# Altium integrated library Wurth_Elektronik_Passive_rev16a.IntLib: 1143 symbols (part 3 of 28)
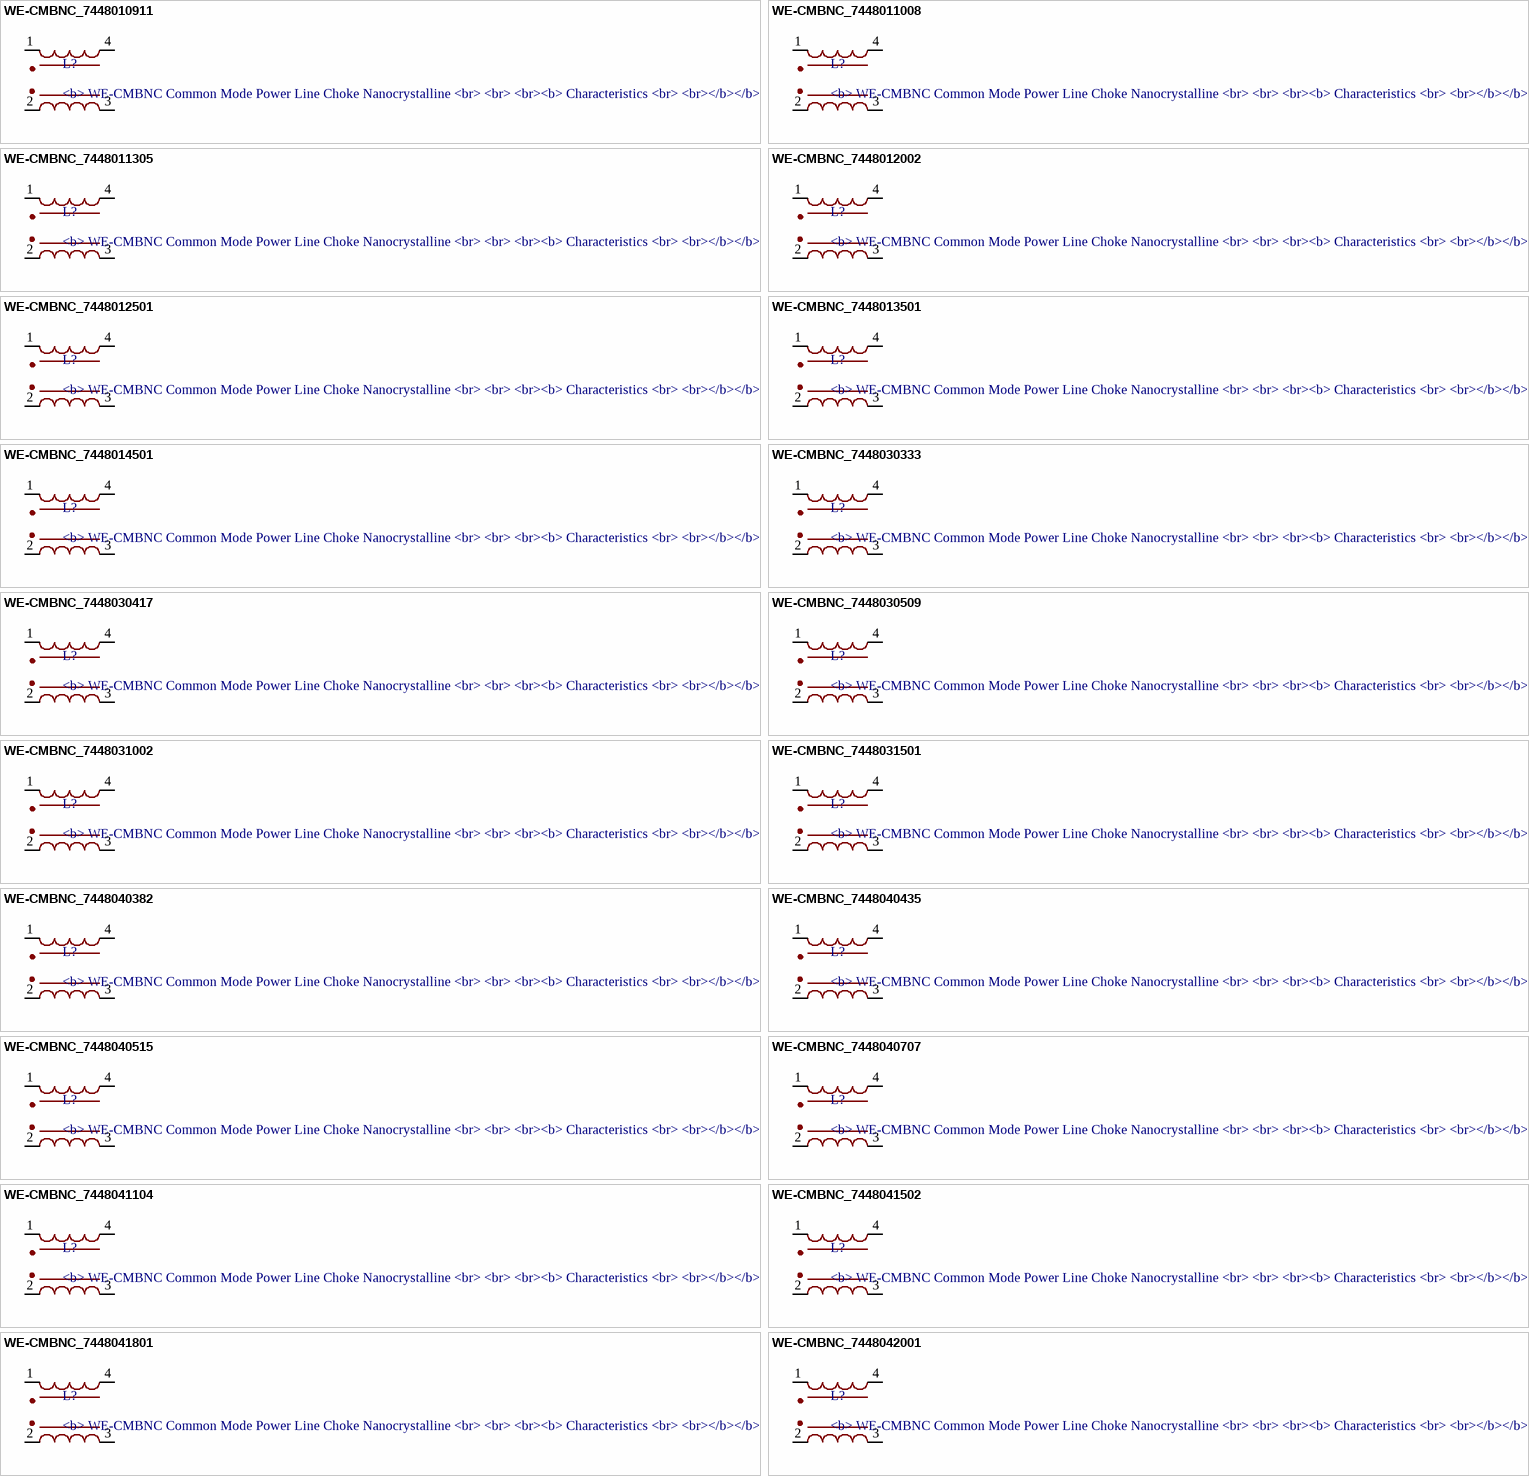
[diagram p60: symbols WE-CMBNC_7448010911 to WE-CMBNC_7448042001]

## WE-CMBNC_7448041104
designator L?, comment <b> WE-CMBNC Common Mode Power Line Choke Nanocrystalline / <br> / <br> / <br><b> Characteristics / <br> / <br></b></b> Very high permeability nanocrystalline core material / <br> / <br> Improved isolation through plastic case and winding spacer / <br> / <br>  High and stable inductance values at high temperatures / <br> / <br> High rated currents / <br> / <br> Broadband suppression / <br> / <br>  Small size / <br> / <br> Frequency range: 1 kHz-300 MHz / <br> / <br> Operating temperature: -40°C to +125°C / <br> / <br> / <br><b> Applications / <br> / <br></b> Power electronics / <br> / <br>  Power line in- and output filter / <br> / <br>  Radio interference suppression in motors / <br> / <br> Suppression for common mode noise / <br> / <br> / <br> / <br><a href="http://katalog.we-online.de/media/images/eisos/IndCMBNC_pf2.jpg" title="Enlarge picture"> / <img src="http://katalog.we-online.de/media/thumbs2/eisos/thb_IndCMBNC_pf2.jpg" width="320"></a><p> / Details see: <a href="http://katalog.we-online.de/en/pbs/WE-CMBNC/">http://katalog.we-online.de/en/pbs/WE-CMBNC/</a><p> / Updated by  Dan Xu 2014-06-23<br> / 2014 (C) Wurth Elektronik
footprint WE-CMBNC_L(WITHOUT-PINS)_7448041104
pins: 1, 2 4, 3, 4 2

## WE-CMBNC_7448041502
designator L?, comment <b> WE-CMBNC Common Mode Power Line Choke Nanocrystalline / <br> / <br> / <br><b> Characteristics / <br> / <br></b></b> Very high permeability nanocrystalline core material / <br> / <br> Improved isolation through plastic case and winding spacer / <br> / <br>  High and stable inductance values at high temperatures / <br> / <br> High rated currents / <br> / <br> Broadband suppression / <br> / <br>  Small size / <br> / <br> Frequency range: 1 kHz-300 MHz / <br> / <br> Operating temperature: -40°C to +125°C / <br> / <br> / <br><b> Applications / <br> / <br></b> Power electronics / <br> / <br>  Power line in- and output filter / <br> / <br>  Radio interference suppression in motors / <br> / <br> Suppression for common mode noise / <br> / <br> / <br> / <br><a href="http://katalog.we-online.de/media/images/eisos/IndCMBNC_pf2.jpg" title="Enlarge picture"> / <img src="http://katalog.we-online.de/media/thumbs2/eisos/thb_IndCMBNC_pf2.jpg" width="320"></a><p> / Details see: <a href="http://katalog.we-online.de/en/pbs/WE-CMBNC/">http://katalog.we-online.de/en/pbs/WE-CMBNC/</a><p> / Updated by  Dan Xu 2014-06-23<br> / 2014 (C) Wurth Elektronik
footprint WE-CMBNC_L(WITHOUT-PINS)_7448041502
pins: 1, 2 4, 3, 4 2

## WE-CMBNC_7448041801
designator L?, comment <b> WE-CMBNC Common Mode Power Line Choke Nanocrystalline / <br> / <br> / <br><b> Characteristics / <br> / <br></b></b> Very high permeability nanocrystalline core material / <br> / <br> Improved isolation through plastic case and winding spacer / <br> / <br>  High and stable inductance values at high temperatures / <br> / <br> High rated currents / <br> / <br> Broadband suppression / <br> / <br>  Small size / <br> / <br> Frequency range: 1 kHz-300 MHz / <br> / <br> Operating temperature: -40°C to +125°C / <br> / <br> / <br><b> Applications / <br> / <br></b> Power electronics / <br> / <br>  Power line in- and output filter / <br> / <br>  Radio interference suppression in motors / <br> / <br> Suppression for common mode noise / <br> / <br> / <br> / <br><a href="http://katalog.we-online.de/media/images/eisos/IndCMBNC_pf2.jpg" title="Enlarge picture"> / <img src="http://katalog.we-online.de/media/thumbs2/eisos/thb_IndCMBNC_pf2.jpg" width="320"></a><p> / Details see: <a href="http://katalog.we-online.de/en/pbs/WE-CMBNC/">http://katalog.we-online.de/en/pbs/WE-CMBNC/</a><p> / Updated by  Dan Xu 2014-06-23<br> / 2014 (C) Wurth Elektronik
footprint WE-CMBNC_L(WITHOUT-PINS)_7448041801
pins: 1, 2 4, 3, 4 2

## WE-CMBNC_7448042001
designator L?, comment <b> WE-CMBNC Common Mode Power Line Choke Nanocrystalline / <br> / <br> / <br><b> Characteristics / <br> / <br></b></b> Very high permeability nanocrystalline core material / <br> / <br> Improved isolation through plastic case and winding spacer / <br> / <br>  High and stable inductance values at high temperatures / <br> / <br> High rated currents / <br> / <br> Broadband suppression / <br> / <br>  Small size / <br> / <br> Frequency range: 1 kHz-300 MHz / <br> / <br> Operating temperature: -40°C to +125°C / <br> / <br> / <br><b> Applications / <br> / <br></b> Power electronics / <br> / <br>  Power line in- and output filter / <br> / <br>  Radio interference suppression in motors / <br> / <br> Suppression for common mode noise / <br> / <br> / <br> / <br><a href="http://katalog.we-online.de/media/images/eisos/IndCMBNC_pf2.jpg" title="Enlarge picture"> / <img src="http://katalog.we-online.de/media/thumbs2/eisos/thb_IndCMBNC_pf2.jpg" width="320"></a><p> / Details see: <a href="http://katalog.we-online.de/en/pbs/WE-CMBNC/">http://katalog.we-online.de/en/pbs/WE-CMBNC/</a><p> / Updated by  Dan Xu 2014-06-23<br> / 2014 (C) Wurth Elektronik
footprint WE-CMBNC_L(WITHOUT-PINS)_7448042001
pins: 1, 2 4, 3, 4 2

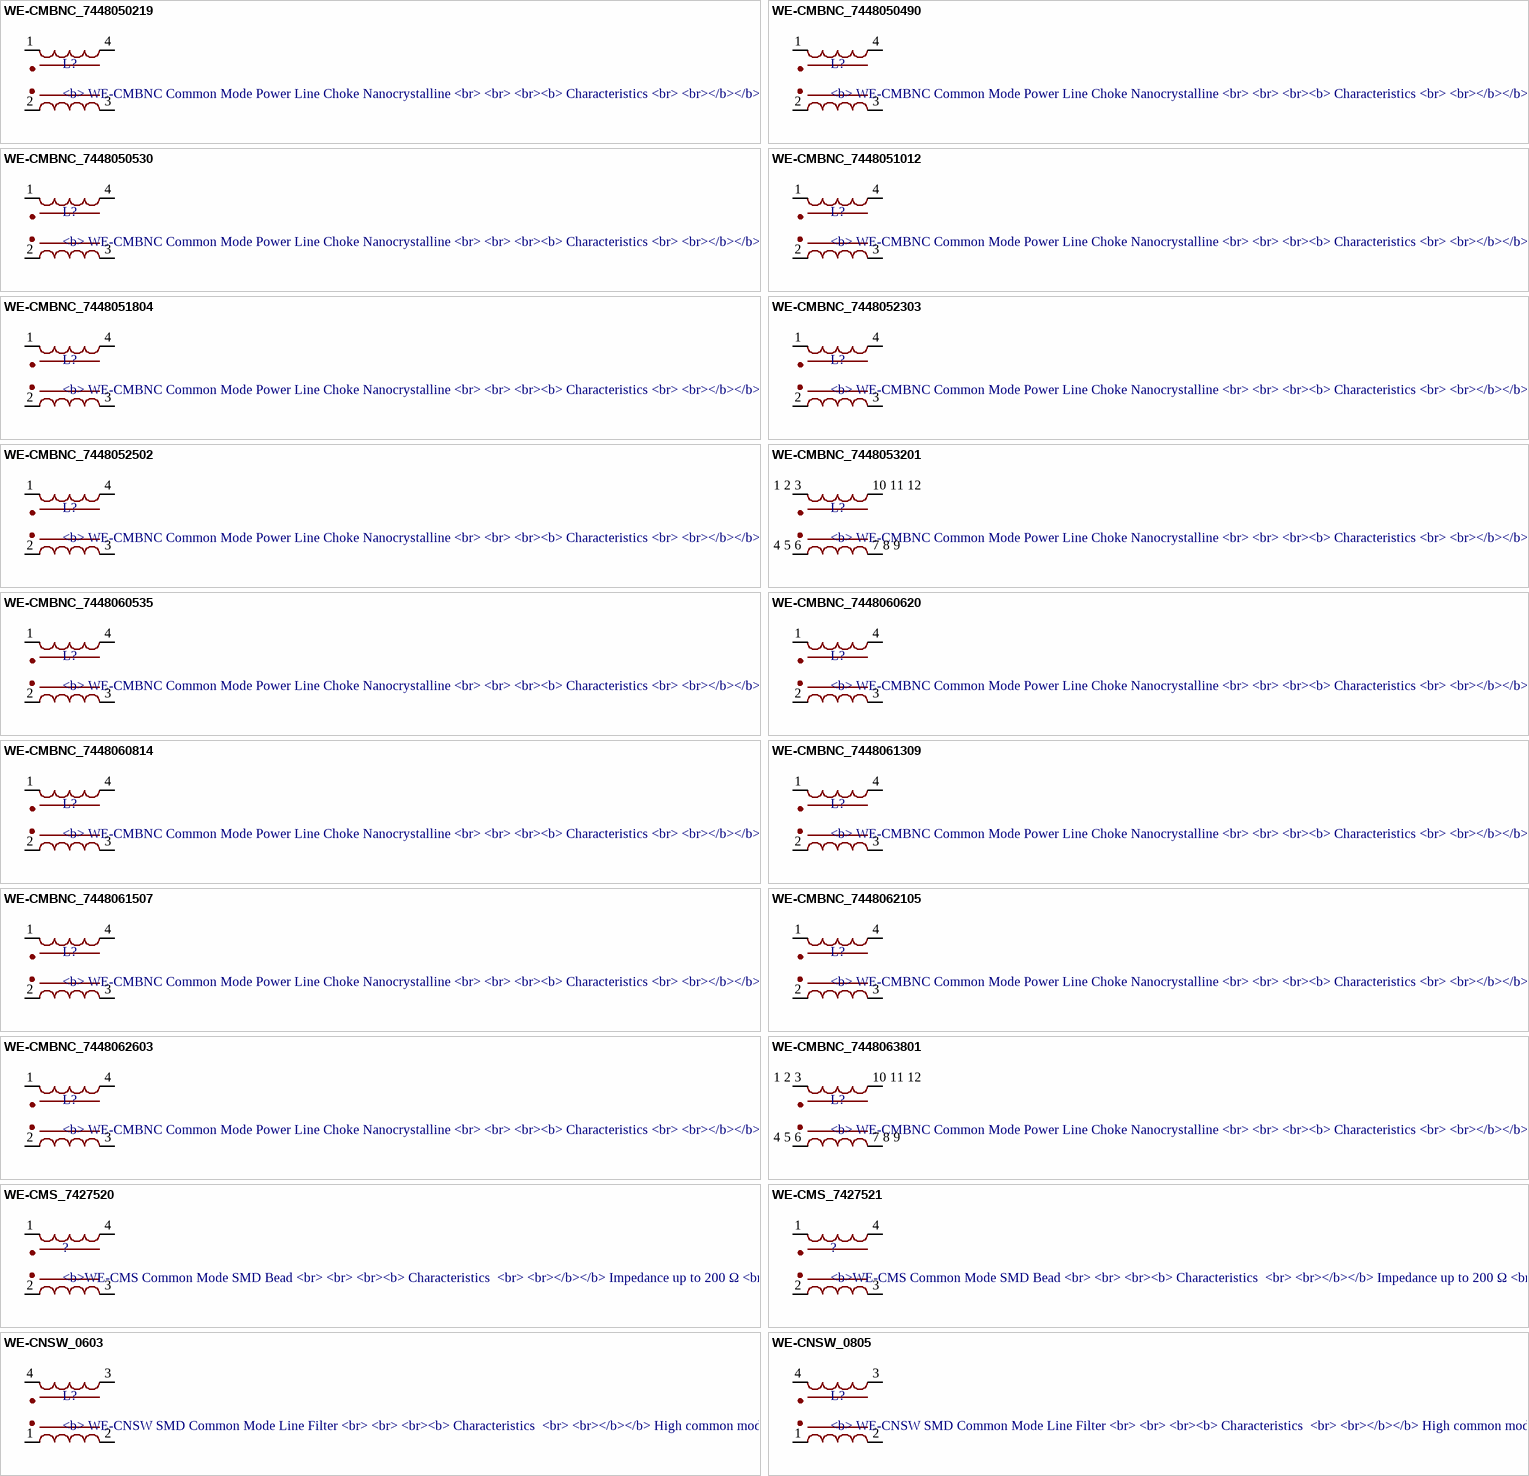
[diagram p3: symbols WE-CMBNC_7448050219 to WE-CNSW_0805]

## WE-CMBNC_7448050219
designator L?, comment <b> WE-CMBNC Common Mode Power Line Choke Nanocrystalline / <br> / <br> / <br><b> Characteristics / <br> / <br></b></b> Very high permeability nanocrystalline core material / <br> / <br> Improved isolation through plastic case and winding spacer / <br> / <br>  High and stable inductance values at high temperatures / <br> / <br> High rated currents / <br> / <br> Broadband suppression / <br> / <br>  Small size / <br> / <br> Frequency range: 1 kHz-300 MHz / <br> / <br> Operating temperature: -40°C to +125°C / <br> / <br> / <br><b> Applications / <br> / <br></b> Power electronics / <br> / <br>  Power line in- and output filter / <br> / <br>  Radio interference suppression in motors / <br> / <br> Suppression for common mode noise / <br> / <br> / <br> / <br><a href="http://katalog.we-online.de/media/images/eisos/IndCMBNC_pf2.jpg" title="Enlarge picture"> / <img src="http://katalog.we-online.de/media/thumbs2/eisos/thb_IndCMBNC_pf2.jpg" width="320"></a><p> / Details see: <a href="http://katalog.we-online.de/en/pbs/WE-CMBNC/">http://katalog.we-online.de/en/pbs/WE-CMBNC/</a><p> / Updated by  Dan Xu 2014-06-23<br> / 2014 (C) Wurth Elektronik
footprint WE-CMBNC_XL_7448050219
pins: 1, 2 4, 3, 4 2

## WE-CMBNC_7448050490
designator L?, comment <b> WE-CMBNC Common Mode Power Line Choke Nanocrystalline / <br> / <br> / <br><b> Characteristics / <br> / <br></b></b> Very high permeability nanocrystalline core material / <br> / <br> Improved isolation through plastic case and winding spacer / <br> / <br>  High and stable inductance values at high temperatures / <br> / <br> High rated currents / <br> / <br> Broadband suppression / <br> / <br>  Small size / <br> / <br> Frequency range: 1 kHz-300 MHz / <br> / <br> Operating temperature: -40°C to +125°C / <br> / <br> / <br><b> Applications / <br> / <br></b> Power electronics / <br> / <br>  Power line in- and output filter / <br> / <br>  Radio interference suppression in motors / <br> / <br> Suppression for common mode noise / <br> / <br> / <br> / <br><a href="http://katalog.we-online.de/media/images/eisos/IndCMBNC_pf2.jpg" title="Enlarge picture"> / <img src="http://katalog.we-online.de/media/thumbs2/eisos/thb_IndCMBNC_pf2.jpg" width="320"></a><p> / Details see: <a href="http://katalog.we-online.de/en/pbs/WE-CMBNC/">http://katalog.we-online.de/en/pbs/WE-CMBNC/</a><p> / Updated by  Dan Xu 2014-06-23<br> / 2014 (C) Wurth Elektronik
footprint WE-CMBNC_XL_7448050490
pins: 1, 2 4, 3, 4 2

## WE-CMBNC_7448050530
designator L?, comment <b> WE-CMBNC Common Mode Power Line Choke Nanocrystalline / <br> / <br> / <br><b> Characteristics / <br> / <br></b></b> Very high permeability nanocrystalline core material / <br> / <br> Improved isolation through plastic case and winding spacer / <br> / <br>  High and stable inductance values at high temperatures / <br> / <br> High rated currents / <br> / <br> Broadband suppression / <br> / <br>  Small size / <br> / <br> Frequency range: 1 kHz-300 MHz / <br> / <br> Operating temperature: -40°C to +125°C / <br> / <br> / <br><b> Applications / <br> / <br></b> Power electronics / <br> / <br>  Power line in- and output filter / <br> / <br>  Radio interference suppression in motors / <br> / <br> Suppression for common mode noise / <br> / <br> / <br> / <br><a href="http://katalog.we-online.de/media/images/eisos/IndCMBNC_pf2.jpg" title="Enlarge picture"> / <img src="http://katalog.we-online.de/media/thumbs2/eisos/thb_IndCMBNC_pf2.jpg" width="320"></a><p> / Details see: <a href="http://katalog.we-online.de/en/pbs/WE-CMBNC/">http://katalog.we-online.de/en/pbs/WE-CMBNC/</a><p> / Updated by  Dan Xu 2014-06-23<br> / 2014 (C) Wurth Elektronik
footprint WE-CMBNC_XL(WITHOUT-PINS)_7448050530
pins: 1, 2 4, 3, 4 2

## WE-CMBNC_7448051012
designator L?, comment <b> WE-CMBNC Common Mode Power Line Choke Nanocrystalline / <br> / <br> / <br><b> Characteristics / <br> / <br></b></b> Very high permeability nanocrystalline core material / <br> / <br> Improved isolation through plastic case and winding spacer / <br> / <br>  High and stable inductance values at high temperatures / <br> / <br> High rated currents / <br> / <br> Broadband suppression / <br> / <br>  Small size / <br> / <br> Frequency range: 1 kHz-300 MHz / <br> / <br> Operating temperature: -40°C to +125°C / <br> / <br> / <br><b> Applications / <br> / <br></b> Power electronics / <br> / <br>  Power line in- and output filter / <br> / <br>  Radio interference suppression in motors / <br> / <br> Suppression for common mode noise / <br> / <br> / <br> / <br><a href="http://katalog.we-online.de/media/images/eisos/IndCMBNC_pf2.jpg" title="Enlarge picture"> / <img src="http://katalog.we-online.de/media/thumbs2/eisos/thb_IndCMBNC_pf2.jpg" width="320"></a><p> / Details see: <a href="http://katalog.we-online.de/en/pbs/WE-CMBNC/">http://katalog.we-online.de/en/pbs/WE-CMBNC/</a><p> / Updated by  Dan Xu 2014-06-23<br> / 2014 (C) Wurth Elektronik
footprint WE-CMBNC_XL(WITHOUT-PINS)_7448051012
pins: 1, 2 4, 3, 4 2

## WE-CMBNC_7448051804
designator L?, comment <b> WE-CMBNC Common Mode Power Line Choke Nanocrystalline / <br> / <br> / <br><b> Characteristics / <br> / <br></b></b> Very high permeability nanocrystalline core material / <br> / <br> Improved isolation through plastic case and winding spacer / <br> / <br>  High and stable inductance values at high temperatures / <br> / <br> High rated currents / <br> / <br> Broadband suppression / <br> / <br>  Small size / <br> / <br> Frequency range: 1 kHz-300 MHz / <br> / <br> Operating temperature: -40°C to +125°C / <br> / <br> / <br><b> Applications / <br> / <br></b> Power electronics / <br> / <br>  Power line in- and output filter / <br> / <br>  Radio interference suppression in motors / <br> / <br> Suppression for common mode noise / <br> / <br> / <br> / <br><a href="http://katalog.we-online.de/media/images/eisos/IndCMBNC_pf2.jpg" title="Enlarge picture"> / <img src="http://katalog.we-online.de/media/thumbs2/eisos/thb_IndCMBNC_pf2.jpg" width="320"></a><p> / Details see: <a href="http://katalog.we-online.de/en/pbs/WE-CMBNC/">http://katalog.we-online.de/en/pbs/WE-CMBNC/</a><p> / Updated by  Dan Xu 2014-06-23<br> / 2014 (C) Wurth Elektronik
footprint WE-CMBNC_XL(WITHOUT-PINS)_7448051804
pins: 1, 2 4, 3, 4 2

## WE-CMBNC_7448052303
designator L?, comment <b> WE-CMBNC Common Mode Power Line Choke Nanocrystalline / <br> / <br> / <br><b> Characteristics / <br> / <br></b></b> Very high permeability nanocrystalline core material / <br> / <br> Improved isolation through plastic case and winding spacer / <br> / <br>  High and stable inductance values at high temperatures / <br> / <br> High rated currents / <br> / <br> Broadband suppression / <br> / <br>  Small size / <br> / <br> Frequency range: 1 kHz-300 MHz / <br> / <br> Operating temperature: -40°C to +125°C / <br> / <br> / <br><b> Applications / <br> / <br></b> Power electronics / <br> / <br>  Power line in- and output filter / <br> / <br>  Radio interference suppression in motors / <br> / <br> Suppression for common mode noise / <br> / <br> / <br> / <br><a href="http://katalog.we-online.de/media/images/eisos/IndCMBNC_pf2.jpg" title="Enlarge picture"> / <img src="http://katalog.we-online.de/media/thumbs2/eisos/thb_IndCMBNC_pf2.jpg" width="320"></a><p> / Details see: <a href="http://katalog.we-online.de/en/pbs/WE-CMBNC/">http://katalog.we-online.de/en/pbs/WE-CMBNC/</a><p> / Updated by  Dan Xu 2014-06-23<br> / 2014 (C) Wurth Elektronik
footprint WE-CMBNC_XL(WITHOUT-PINS)_7448052303
pins: 1, 2 4, 3, 4 2

## WE-CMBNC_7448052502
designator L?, comment <b> WE-CMBNC Common Mode Power Line Choke Nanocrystalline / <br> / <br> / <br><b> Characteristics / <br> / <br></b></b> Very high permeability nanocrystalline core material / <br> / <br> Improved isolation through plastic case and winding spacer / <br> / <br>  High and stable inductance values at high temperatures / <br> / <br> High rated currents / <br> / <br> Broadband suppression / <br> / <br>  Small size / <br> / <br> Frequency range: 1 kHz-300 MHz / <br> / <br> Operating temperature: -40°C to +125°C / <br> / <br> / <br><b> Applications / <br> / <br></b> Power electronics / <br> / <br>  Power line in- and output filter / <br> / <br>  Radio interference suppression in motors / <br> / <br> Suppression for common mode noise / <br> / <br> / <br> / <br><a href="http://katalog.we-online.de/media/images/eisos/IndCMBNC_pf2.jpg" title="Enlarge picture"> / <img src="http://katalog.we-online.de/media/thumbs2/eisos/thb_IndCMBNC_pf2.jpg" width="320"></a><p> / Details see: <a href="http://katalog.we-online.de/en/pbs/WE-CMBNC/">http://katalog.we-online.de/en/pbs/WE-CMBNC/</a><p> / Updated by  Dan Xu 2014-06-23<br> / 2014 (C) Wurth Elektronik
footprint WE-CMBNC_XL(WITHOUT-PINS)_7448052502
pins: 1, 2 4, 3, 4 2

## WE-CMBNC_7448053201
designator L?, comment <b> WE-CMBNC Common Mode Power Line Choke Nanocrystalline / <br> / <br> / <br><b> Characteristics / <br> / <br></b></b> Very high permeability nanocrystalline core material / <br> / <br> Improved isolation through plastic case and winding spacer / <br> / <br>  High and stable inductance values at high temperatures / <br> / <br> High rated currents / <br> / <br> Broadband suppression / <br> / <br>  Small size / <br> / <br> Frequency range: 1 kHz-300 MHz / <br> / <br> Operating temperature: -40°C to +125°C / <br> / <br> / <br><b> Applications / <br> / <br></b> Power electronics / <br> / <br>  Power line in- and output filter / <br> / <br>  Radio interference suppression in motors / <br> / <br> Suppression for common mode noise / <br> / <br> / <br> / <br><a href="http://katalog.we-online.de/media/images/eisos/IndCMBNC_pf2.jpg" title="Enlarge picture"> / <img src="http://katalog.we-online.de/media/thumbs2/eisos/thb_IndCMBNC_pf2.jpg" width="320"></a><p> / Details see: <a href="http://katalog.we-online.de/en/pbs/WE-CMBNC/">http://katalog.we-online.de/en/pbs/WE-CMBNC/</a><p> / Updated by  Dan Xu 2014-06-23<br> / 2014 (C) Wurth Elektronik
footprint WE-CMBNC_XL(WITHOUT-PINS)_7448053201
pins: 1 2 3 1, 4 5 6 4, 7 8 9 3, 10 11 12 2

## WE-CMBNC_7448060535
designator L?, comment <b> WE-CMBNC Common Mode Power Line Choke Nanocrystalline / <br> / <br> / <br><b> Characteristics / <br> / <br></b></b> Very high permeability nanocrystalline core material / <br> / <br> Improved isolation through plastic case and winding spacer / <br> / <br>  High and stable inductance values at high temperatures / <br> / <br> High rated currents / <br> / <br> Broadband suppression / <br> / <br>  Small size / <br> / <br> Frequency range: 1 kHz-300 MHz / <br> / <br> Operating temperature: -40°C to +125°C / <br> / <br> / <br><b> Applications / <br> / <br></b> Power electronics / <br> / <br>  Power line in- and output filter / <br> / <br>  Radio interference suppression in motors / <br> / <br> Suppression for common mode noise / <br> / <br> / <br> / <br><a href="http://katalog.we-online.de/media/images/eisos/IndCMBNC_pf2.jpg" title="Enlarge picture"> / <img src="http://katalog.we-online.de/media/thumbs2/eisos/thb_IndCMBNC_pf2.jpg" width="320"></a><p> / Details see: <a href="http://katalog.we-online.de/en/pbs/WE-CMBNC/">http://katalog.we-online.de/en/pbs/WE-CMBNC/</a><p> / Updated by  Dan Xu 2014-06-23<br> / 2014 (C) Wurth Elektronik
footprint WE-CMBNC_XXL_7448060535
pins: 1, 2 4, 3, 4 2

## WE-CMBNC_7448060620
designator L?, comment <b> WE-CMBNC Common Mode Power Line Choke Nanocrystalline / <br> / <br> / <br><b> Characteristics / <br> / <br></b></b> Very high permeability nanocrystalline core material / <br> / <br> Improved isolation through plastic case and winding spacer / <br> / <br>  High and stable inductance values at high temperatures / <br> / <br> High rated currents / <br> / <br> Broadband suppression / <br> / <br>  Small size / <br> / <br> Frequency range: 1 kHz-300 MHz / <br> / <br> Operating temperature: -40°C to +125°C / <br> / <br> / <br><b> Applications / <br> / <br></b> Power electronics / <br> / <br>  Power line in- and output filter / <br> / <br>  Radio interference suppression in motors / <br> / <br> Suppression for common mode noise / <br> / <br> / <br> / <br><a href="http://katalog.we-online.de/media/images/eisos/IndCMBNC_pf2.jpg" title="Enlarge picture"> / <img src="http://katalog.we-online.de/media/thumbs2/eisos/thb_IndCMBNC_pf2.jpg" width="320"></a><p> / Details see: <a href="http://katalog.we-online.de/en/pbs/WE-CMBNC/">http://katalog.we-online.de/en/pbs/WE-CMBNC/</a><p> / Updated by  Dan Xu 2014-06-23<br> / 2014 (C) Wurth Elektronik
footprint WE-CMBNC_XXL_7448060620
pins: 1, 2 4, 3, 4 2

## WE-CMBNC_7448060814
designator L?, comment <b> WE-CMBNC Common Mode Power Line Choke Nanocrystalline / <br> / <br> / <br><b> Characteristics / <br> / <br></b></b> Very high permeability nanocrystalline core material / <br> / <br> Improved isolation through plastic case and winding spacer / <br> / <br>  High and stable inductance values at high temperatures / <br> / <br> High rated currents / <br> / <br> Broadband suppression / <br> / <br>  Small size / <br> / <br> Frequency range: 1 kHz-300 MHz / <br> / <br> Operating temperature: -40°C to +125°C / <br> / <br> / <br><b> Applications / <br> / <br></b> Power electronics / <br> / <br>  Power line in- and output filter / <br> / <br>  Radio interference suppression in motors / <br> / <br> Suppression for common mode noise / <br> / <br> / <br> / <br><a href="http://katalog.we-online.de/media/images/eisos/IndCMBNC_pf2.jpg" title="Enlarge picture"> / <img src="http://katalog.we-online.de/media/thumbs2/eisos/thb_IndCMBNC_pf2.jpg" width="320"></a><p> / Details see: <a href="http://katalog.we-online.de/en/pbs/WE-CMBNC/">http://katalog.we-online.de/en/pbs/WE-CMBNC/</a><p> / Updated by  Dan Xu 2014-06-23<br> / 2014 (C) Wurth Elektronik
footprint WE-CMBNC_XXL_7448060814
pins: 1, 2 4, 3, 4 2

## WE-CMBNC_7448061309
designator L?, comment <b> WE-CMBNC Common Mode Power Line Choke Nanocrystalline / <br> / <br> / <br><b> Characteristics / <br> / <br></b></b> Very high permeability nanocrystalline core material / <br> / <br> Improved isolation through plastic case and winding spacer / <br> / <br>  High and stable inductance values at high temperatures / <br> / <br> High rated currents / <br> / <br> Broadband suppression / <br> / <br>  Small size / <br> / <br> Frequency range: 1 kHz-300 MHz / <br> / <br> Operating temperature: -40°C to +125°C / <br> / <br> / <br><b> Applications / <br> / <br></b> Power electronics / <br> / <br>  Power line in- and output filter / <br> / <br>  Radio interference suppression in motors / <br> / <br> Suppression for common mode noise / <br> / <br> / <br> / <br><a href="http://katalog.we-online.de/media/images/eisos/IndCMBNC_pf2.jpg" title="Enlarge picture"> / <img src="http://katalog.we-online.de/media/thumbs2/eisos/thb_IndCMBNC_pf2.jpg" width="320"></a><p> / Details see: <a href="http://katalog.we-online.de/en/pbs/WE-CMBNC/">http://katalog.we-online.de/en/pbs/WE-CMBNC/</a><p> / Updated by  Dan Xu 2014-06-23<br> / 2014 (C) Wurth Elektronik
footprint WE-CMBNC_XXL_7448061309
pins: 1, 2 4, 3, 4 2

## WE-CMBNC_7448061507
designator L?, comment <b> WE-CMBNC Common Mode Power Line Choke Nanocrystalline / <br> / <br> / <br><b> Characteristics / <br> / <br></b></b> Very high permeability nanocrystalline core material / <br> / <br> Improved isolation through plastic case and winding spacer / <br> / <br>  High and stable inductance values at high temperatures / <br> / <br> High rated currents / <br> / <br> Broadband suppression / <br> / <br>  Small size / <br> / <br> Frequency range: 1 kHz-300 MHz / <br> / <br> Operating temperature: -40°C to +125°C / <br> / <br> / <br><b> Applications / <br> / <br></b> Power electronics / <br> / <br>  Power line in- and output filter / <br> / <br>  Radio interference suppression in motors / <br> / <br> Suppression for common mode noise / <br> / <br> / <br> / <br><a href="http://katalog.we-online.de/media/images/eisos/IndCMBNC_pf2.jpg" title="Enlarge picture"> / <img src="http://katalog.we-online.de/media/thumbs2/eisos/thb_IndCMBNC_pf2.jpg" width="320"></a><p> / Details see: <a href="http://katalog.we-online.de/en/pbs/WE-CMBNC/">http://katalog.we-online.de/en/pbs/WE-CMBNC/</a><p> / Updated by  Dan Xu 2014-06-23<br> / 2014 (C) Wurth Elektronik
footprint WE-CMBNC_XXL_7448061507
pins: 1, 2 4, 3, 4 2

## WE-CMBNC_7448062105
designator L?, comment <b> WE-CMBNC Common Mode Power Line Choke Nanocrystalline / <br> / <br> / <br><b> Characteristics / <br> / <br></b></b> Very high permeability nanocrystalline core material / <br> / <br> Improved isolation through plastic case and winding spacer / <br> / <br>  High and stable inductance values at high temperatures / <br> / <br> High rated currents / <br> / <br> Broadband suppression / <br> / <br>  Small size / <br> / <br> Frequency range: 1 kHz-300 MHz / <br> / <br> Operating temperature: -40°C to +125°C / <br> / <br> / <br><b> Applications / <br> / <br></b> Power electronics / <br> / <br>  Power line in- and output filter / <br> / <br>  Radio interference suppression in motors / <br> / <br> Suppression for common mode noise / <br> / <br> / <br> / <br><a href="http://katalog.we-online.de/media/images/eisos/IndCMBNC_pf2.jpg" title="Enlarge picture"> / <img src="http://katalog.we-online.de/media/thumbs2/eisos/thb_IndCMBNC_pf2.jpg" width="320"></a><p> / Details see: <a href="http://katalog.we-online.de/en/pbs/WE-CMBNC/">http://katalog.we-online.de/en/pbs/WE-CMBNC/</a><p> / Updated by  Dan Xu 2014-06-23<br> / 2014 (C) Wurth Elektronik
footprint WE-CMBNC_XXL_7448062105
pins: 1, 2 4, 3, 4 2

## WE-CMBNC_7448062603
designator L?, comment <b> WE-CMBNC Common Mode Power Line Choke Nanocrystalline / <br> / <br> / <br><b> Characteristics / <br> / <br></b></b> Very high permeability nanocrystalline core material / <br> / <br> Improved isolation through plastic case and winding spacer / <br> / <br>  High and stable inductance values at high temperatures / <br> / <br> High rated currents / <br> / <br> Broadband suppression / <br> / <br>  Small size / <br> / <br> Frequency range: 1 kHz-300 MHz / <br> / <br> Operating temperature: -40°C to +125°C / <br> / <br> / <br><b> Applications / <br> / <br></b> Power electronics / <br> / <br>  Power line in- and output filter / <br> / <br>  Radio interference suppression in motors / <br> / <br> Suppression for common mode noise / <br> / <br> / <br> / <br><a href="http://katalog.we-online.de/media/images/eisos/IndCMBNC_pf2.jpg" title="Enlarge picture"> / <img src="http://katalog.we-online.de/media/thumbs2/eisos/thb_IndCMBNC_pf2.jpg" width="320"></a><p> / Details see: <a href="http://katalog.we-online.de/en/pbs/WE-CMBNC/">http://katalog.we-online.de/en/pbs/WE-CMBNC/</a><p> / Updated by  Dan Xu 2014-06-23<br> / 2014 (C) Wurth Elektronik
footprint WE-CMBNC_XXL_7448062603
pins: 1, 2 4, 3, 4 2

## WE-CMBNC_7448063801
designator L?, comment <b> WE-CMBNC Common Mode Power Line Choke Nanocrystalline / <br> / <br> / <br><b> Characteristics / <br> / <br></b></b> Very high permeability nanocrystalline core material / <br> / <br> Improved isolation through plastic case and winding spacer / <br> / <br>  High and stable inductance values at high temperatures / <br> / <br> High rated currents / <br> / <br> Broadband suppression / <br> / <br>  Small size / <br> / <br> Frequency range: 1 kHz-300 MHz / <br> / <br> Operating temperature: -40°C to +125°C / <br> / <br> / <br><b> Applications / <br> / <br></b> Power electronics / <br> / <br>  Power line in- and output filter / <br> / <br>  Radio interference suppression in motors / <br> / <br> Suppression for common mode noise / <br> / <br> / <br> / <br><a href="http://katalog.we-online.de/media/images/eisos/IndCMBNC_pf2.jpg" title="Enlarge picture"> / <img src="http://katalog.we-online.de/media/thumbs2/eisos/thb_IndCMBNC_pf2.jpg" width="320"></a><p> / Details see: <a href="http://katalog.we-online.de/en/pbs/WE-CMBNC/">http://katalog.we-online.de/en/pbs/WE-CMBNC/</a><p> / Updated by  Dan Xu 2014-06-23<br> / 2014 (C) Wurth Elektronik
footprint WE-CMBNC_XXL_7448063801
pins: 1 2 3 1, 4 5 6 4, 7 8 9 3, 10 11 12 2

## WE-CMS_7427520
designator ?, comment <b>WE-CMS Common Mode SMD Bead / <br> / <br> / <br><b> Characteristics / <br> / <br></b></b> Impedance up to 200 Ω / <br> / <br> Operating temperature: –40 ºC to +85 ºC / <br> / <br> / <br><b> Applications / <br> / <br></b> Power supply systems / <br> / <br> Symmetric data lines / <br> / <br> Common mode interference / <br> / <br> Power electronics / <br> / <br> / <br><a href="http://katalog.we-online.de/media/images/eisos/FeCMS_pf2.jpg"> / <img src="http://katalog.we-online.de/media/images/eisos/FeCMS_pf2.jpg" width="320"></a><p> / Details see: <a href="http://katalog.we-online.de/en/pbs/WE-CMS/?">http://katalog.we-online.de/en/pbs/WE-CMS/?</a><p> / Updated by  Dan Xu 2014-06-30<br> / 2014 (C) Wurth Elektronik
footprint WE-CMS_7427520
pins: 1, 2 4, 3, 4 2

## WE-CMS_7427521
designator ?, comment <b>WE-CMS Common Mode SMD Bead / <br> / <br> / <br><b> Characteristics / <br> / <br></b></b> Impedance up to 200 Ω / <br> / <br> Operating temperature: –40 ºC to +85 ºC / <br> / <br> / <br><b> Applications / <br> / <br></b> Power supply systems / <br> / <br> Symmetric data lines / <br> / <br> Common mode interference / <br> / <br> Power electronics / <br> / <br> / <br><a href="http://katalog.we-online.de/media/images/eisos/FeCMS_pf2.jpg"> / <img src="http://katalog.we-online.de/media/images/eisos/FeCMS_pf2.jpg" width="320"></a><p> / Details see: <a href="http://katalog.we-online.de/en/pbs/WE-CMS/?">http://katalog.we-online.de/en/pbs/WE-CMS/?</a><p> / Updated by  Dan Xu 2014-06-30<br> / 2014 (C) Wurth Elektronik
footprint WE-CMS_7427521
pins: 1, 2 4, 3, 4 2

## WE-CNSW_0603
designator L?, comment <b> WE-CNSW SMD Common Mode Line Filter / <br> / <br> / <br><b> Characteristics / <br> / <br></b></b> High common mode noise suppression at high frequencies / <br> / <br> Small influence on high speed signals through winding symmetry / <br> / <br> Operating temperature: –40 ºC to +125 ºC (Size 0805/1206/1812); –40 ºC to +105 ºC (Size 0603) / <br> / <br> / <br><b> Applications / <br> / <br></b> USB 2.0 / <br> / <br> IEEE 1394 (Firewire) / <br> / <br> LVDS / <br> / <br> High Speed Data Lines / <br> / <br>LAN / <br> / <br> / <br> / <br><a href="http://katalog.we-online.de/media/images/eisos/IndCNSW_pf2.jpg"> / <img src="http://katalog.we-online.de/media/images/eisos/IndCNSW_pf2.jpg" width="320"></a><p> / Details see: <a href="http://katalog.we-online.de/en/pbs/WE-CNSW">http://katalog.we-online.de/en/pbs/WE-CNSW</a><p> / Updated by  Dan Xu 2014-06-30<br> / 2014 (C) Wurth Elektronik
footprint WE-CNSW_0603
pins: 1 4, 2 3, 3 2, 4 1

## WE-CNSW_0805
designator L?, comment <b> WE-CNSW SMD Common Mode Line Filter / <br> / <br> / <br><b> Characteristics / <br> / <br></b></b> High common mode noise suppression at high frequencies / <br> / <br> Small influence on high speed signals through winding symmetry / <br> / <br> Operating temperature: –40 ºC to +125 ºC (Size 0805/1206/1812); –40 ºC to +105 ºC (Size 0603) / <br> / <br> / <br><b> Applications / <br> / <br></b> USB 2.0 / <br> / <br> IEEE 1394 (Firewire) / <br> / <br> LVDS / <br> / <br> High Speed Data Lines / <br> / <br>LAN / <br> / <br> / <br> / <br><a href="http://katalog.we-online.de/media/images/eisos/IndCNSW_pf2.jpg"> / <img src="http://katalog.we-online.de/media/images/eisos/IndCNSW_pf2.jpg" width="320"></a><p> / Details see: <a href="http://katalog.we-online.de/en/pbs/WE-CNSW">http://katalog.we-online.de/en/pbs/WE-CNSW</a><p> / Updated by  Dan Xu 2014-06-30<br> / 2014 (C) Wurth Elektronik
footprint WE-CNSW_0805
pins: 1 4, 2 3, 3 2, 4 1

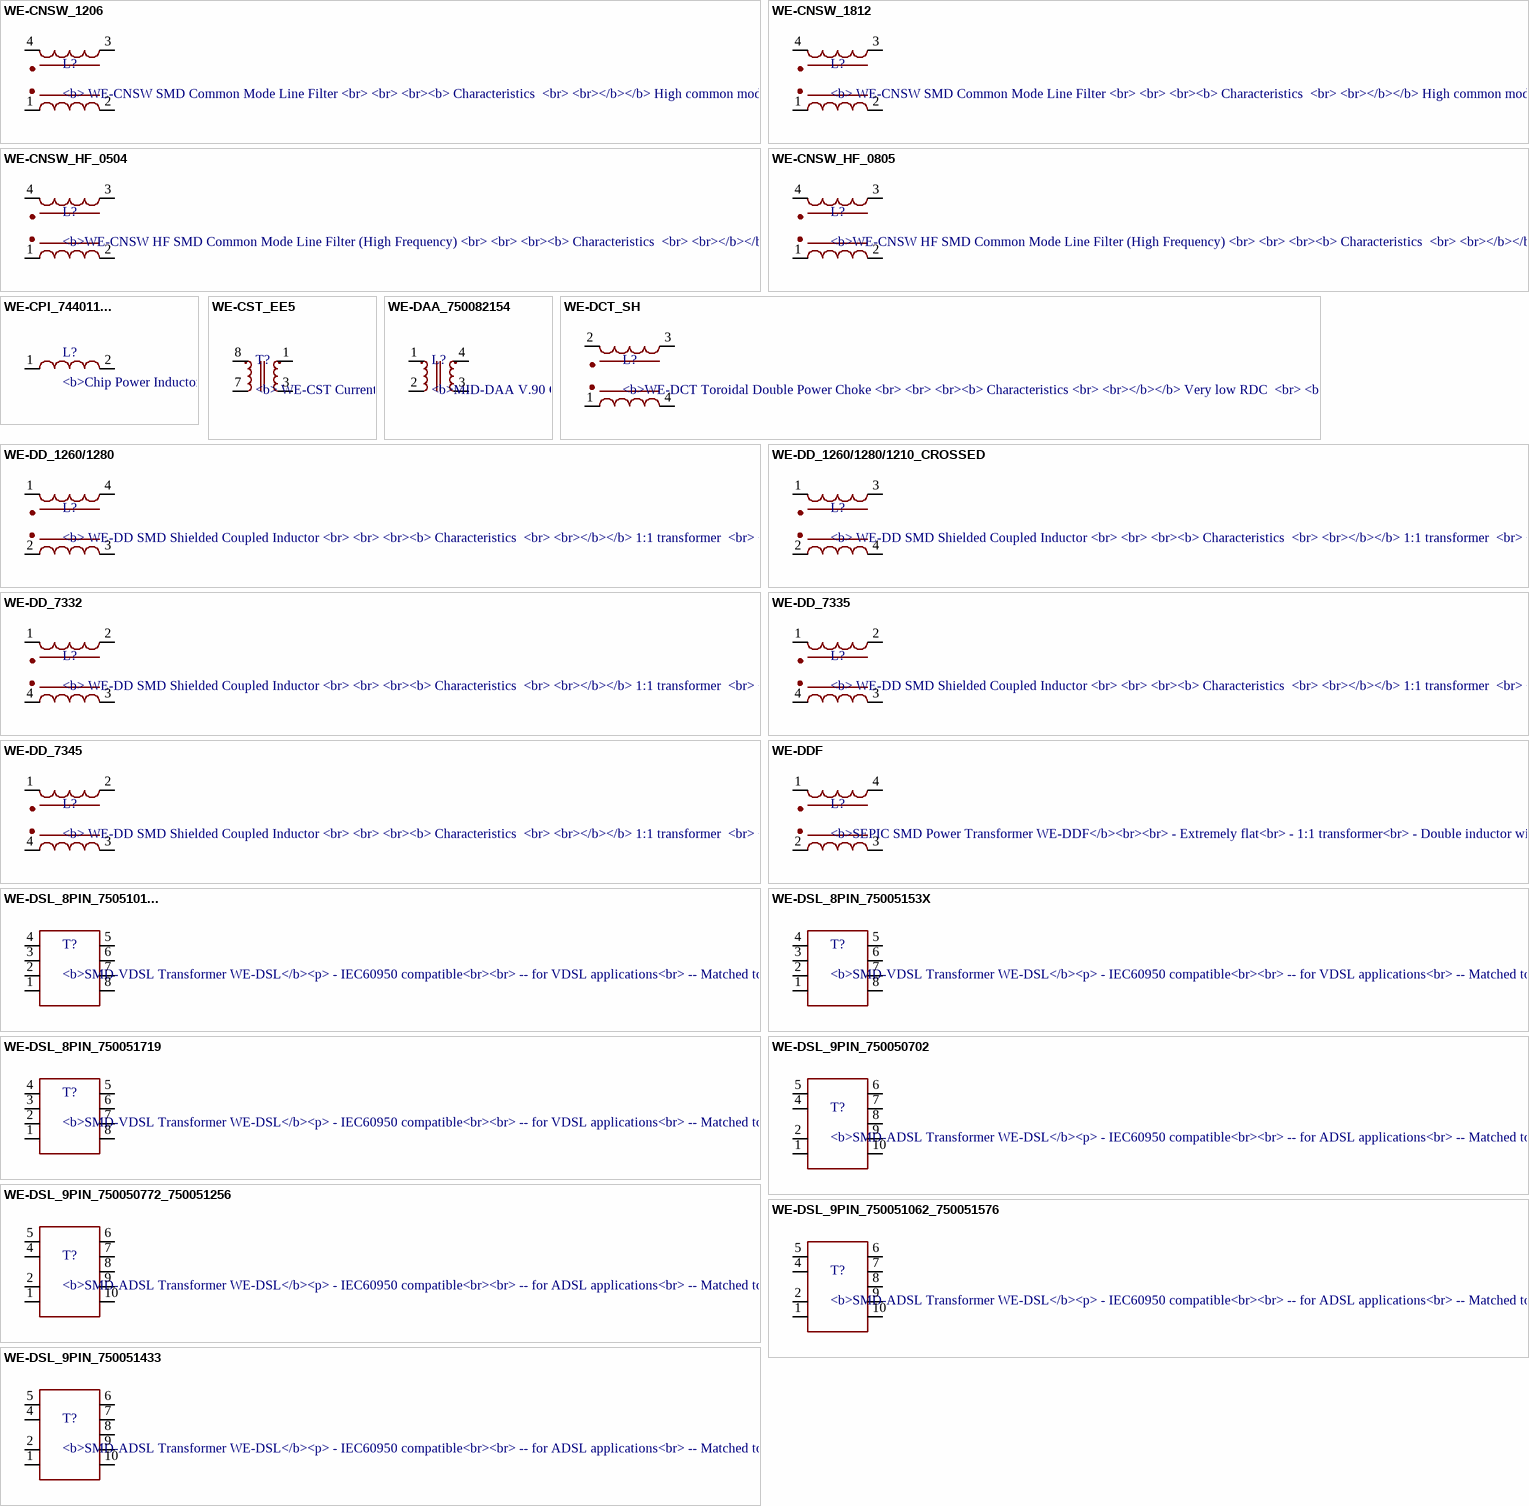
[diagram p4: symbols WE-CNSW_1206 to WE-DSL_9PIN_750051433]

## WE-CNSW_1206
designator L?, comment <b> WE-CNSW SMD Common Mode Line Filter / <br> / <br> / <br><b> Characteristics / <br> / <br></b></b> High common mode noise suppression at high frequencies / <br> / <br> Small influence on high speed signals through winding symmetry / <br> / <br> Operating temperature: –40 ºC to +125 ºC (Size 0805/1206/1812); –40 ºC to +105 ºC (Size 0603) / <br> / <br> / <br><b> Applications / <br> / <br></b> USB 2.0 / <br> / <br> IEEE 1394 (Firewire) / <br> / <br> LVDS / <br> / <br> High Speed Data Lines / <br> / <br>LAN / <br> / <br> / <br> / <br><a href="http://katalog.we-online.de/media/images/eisos/IndCNSW_pf2.jpg"> / <img src="http://katalog.we-online.de/media/images/eisos/IndCNSW_pf2.jpg" width="320"></a><p> / Details see: <a href="http://katalog.we-online.de/en/pbs/WE-CNSW">http://katalog.we-online.de/en/pbs/WE-CNSW</a><p> / Updated by  Dan Xu 2014-06-30<br> / 2014 (C) Wurth Elektronik
footprint WE-CNSW_1206
pins: 1 4, 2 3, 3 2, 4 1

## WE-CNSW_1812
designator L?, comment <b> WE-CNSW SMD Common Mode Line Filter / <br> / <br> / <br><b> Characteristics / <br> / <br></b></b> High common mode noise suppression at high frequencies / <br> / <br> Small influence on high speed signals through winding symmetry / <br> / <br> Operating temperature: –40 ºC to +125 ºC (Size 0805/1206/1812); –40 ºC to +105 ºC (Size 0603) / <br> / <br> / <br><b> Applications / <br> / <br></b> USB 2.0 / <br> / <br> IEEE 1394 (Firewire) / <br> / <br> LVDS / <br> / <br> High Speed Data Lines / <br> / <br>LAN / <br> / <br> / <br> / <br><a href="http://katalog.we-online.de/media/images/eisos/IndCNSW_pf2.jpg"> / <img src="http://katalog.we-online.de/media/images/eisos/IndCNSW_pf2.jpg" width="320"></a><p> / Details see: <a href="http://katalog.we-online.de/en/pbs/WE-CNSW">http://katalog.we-online.de/en/pbs/WE-CNSW</a><p> / Updated by  Dan Xu 2014-06-30<br> / 2014 (C) Wurth Elektronik
footprint WE-CNSW_1812
pins: 1 4, 2 3, 3 2, 4 1

## WE-CNSW_HF_0504
designator L?, comment <b>WE-CNSW HF SMD Common Mode Line Filter (High Frequency) / <br> / <br> / <br><b> Characteristics / <br> / <br></b></b> urrent compensated data line filter / <br> / <br> High common mode noise suppression at high frequencies / <br> / <br> Suitable for high data rates / <br> / <br> Small influence on high speed signals through winding symmetry / <br> / <br> Operating temperature: –40 ºC to +125 ºC / <br> / <br> / <br><b> Applications / <br> / <br></b> USB 3.0 / <br> / <br>USB 2.0 / <br> / <br> HDMI / <br> / <br> LVDS / <br> / <br> High-Speed data lines / <br> / <br> IEEE 1394 (Firewire) / <br> / <br> / <br> / <br><a href="http://katalog.we-online.de/media/images/eisos/IndCNSWHF_pf2.jpg" title="Enlarge picture"> / <img src="http://katalog.we-online.de/media/thumbs2/eisos/thb_IndCNSWHF_pf2.jpg" width="320"></a><p> / Details see: <a href="http://katalog.we-online.de/en/pbs/WE-CNSW_HF">http://katalog.we-online.de/en/pbs/WE-CNSW_HF</a><p> / <BR>Created by Dan Xu 2014-6-10<Br> / 2014 (C) Wurth Elektronik
footprint WE-CNSW_0504
pins: 1 4, 2 3, 3 2, 4 1

## WE-CNSW_HF_0805
designator L?, comment <b>WE-CNSW HF SMD Common Mode Line Filter (High Frequency) / <br> / <br> / <br><b> Characteristics / <br> / <br></b></b> urrent compensated data line filter / <br> / <br> High common mode noise suppression at high frequencies / <br> / <br> Suitable for high data rates / <br> / <br> Small influence on high speed signals through winding symmetry / <br> / <br> Operating temperature: –40 ºC to +125 ºC / <br> / <br> / <br><b> Applications / <br> / <br></b> USB 3.0 / <br> / <br>USB 2.0 / <br> / <br> HDMI / <br> / <br> LVDS / <br> / <br> High-Speed data lines / <br> / <br> IEEE 1394 (Firewire) / <br> / <br> / <br> / <br><a href="http://katalog.we-online.de/media/images/eisos/IndCNSWHF_pf2.jpg" title="Enlarge picture"> / <img src="http://katalog.we-online.de/media/thumbs2/eisos/thb_IndCNSWHF_pf2.jpg" width="320"></a><p> / Details see: <a href="http://katalog.we-online.de/en/pbs/WE-CNSW_HF">http://katalog.we-online.de/en/pbs/WE-CNSW_HF</a><p> / <BR>Created by Dan Xu 2014-6-10<Br> / 2014 (C) Wurth Elektronik
footprint WE-CNSW_0805
pins: 1 4, 2 3, 3 2, 4 1

## WE-CPI_744011...
designator L?, comment <b>Chip Power Inductor WE-CPI</b><br><br> / - Extremely flat power inductor <= 1,1 mm<br> / - High current capability<br><br> / -- Portable power like PDA, digital camera, / PCMICA-cards and displays<br> / -- DC/DC-converter<br> / -- Recommended for switching regulator IC's from / Linear Technology, National Semiconductor, / Texas Instruments and Fairchild Semiconductor
footprint WE-CPI_744011...
pins: 1, 2

## WE-CST_EE5
designator T?, comment <b> WE-CST Current Sense Transformer / <br> / <br> / <br><b> Characteristics / <br> / <br></b></b> Height 5.33 mm max. / <br> / <br> Frequency 50 kHz to 1 MHz / <br> / <br> Primary current rating up to 10 A / <br> / <br> Operating temperature: –15 °C to +105 °C / <br> / <br> / <br><b> Applications / <br> / <br></b> AC current detection / <br> / <br>Switch mode power supply / <br> / <br> / <br> / <br><a href="http://katalog.we-online.de/media/images/eisos/UtCST_MID_pf2.jpg" title="Enlarge picture"> / <img src="http://katalog.we-online.de/media/images/eisos/UtCST_MID_pf2.jpg" width="320"></a><p> / Details see: <a href="http://katalog.we-online.de/en/pbs/WE-CST">http://katalog.we-online.de/en/pbs/WE-CST</a><p> / <BR>Updated by  Dan Xu 2014-06-10<br> / 2014 (C) Wurth Elektronik
footprint WE-CST
pins: 1 2, 3, 7 4, 8 1

## WE-DAA_750082154
designator L?, comment <b>MID-DAA V.90 Conexant SmartDAA(TM) Signal Transformers</b><p> / <br> / <br><b> Characteristics / </b><br> Small Size / <br> Flat profile / <br> SMD / <br> V.90 performance / <br> Released for Conexant SmartDAA(TM) solution / <br> / <br><b> Applications / <br></b> Analog modems / <br> Point of sale / <br>Signal isolation / <br> / <br> / <br><a href="http://katalog.we-online.de/media/images/ctm/MID-DAA_pf2.jpg" title="Enlarge picture"> / <img src="http://katalog.we-online.de/media/thumbs2/ctm/thb_MID-DAA_pf2.jpg" width="320"></a><p> / Details see: <a href="http://katalog.we-online.de/en/ctm/MID-DAA/750082154?m">http://katalog.we-online.de/en/ctm/MID-DAA/750082154?m</a><p> / Updated by  Dan Xu 2014-06-19<br> / 2014 (C) Wurth Elektronik
footprint WE-DAA_750082154
pins: 1, 2 4, 3, 4 2

## WE-DCT_SH
designator L?, comment <b>WE-DCT Toroidal Double Power Choke / <br> / <br> / <br><b> Characteristics / <br> / <br></b></b> Very low RDC / <br> / <br> Very low core losses / <br> / <br>Saturation current higher up to 120 A / <br> / <br> Low inductance drift over temperature / <br> / <br> Operating temperature: –40 °C up to +125 °C / <br> / <br> Coupled inductor with two identical windings / <br> / <br> More variants due to parallel and series connection / <br> / <br> Low leakage due to bifilar winding / <br> / <br> / <br><b> Applications / <br> / <br></b> high power switching regulators / <br> / <br> Solar inverter / <br> / <br> 1:1 flyback converter / <br> / <br> Buck, Boost, Sepic and CUK Converter / <br> / <br> Switching regulators with secondary unregulated output voltage / <br> / <br> / <br> / <br><a href="http://katalog.we-online.de/media/images/eisos/IndDCT_pf2.jpg" title="Enlarge picture"> / <img src="http://katalog.we-online.de/media/images/eisos/IndDCT_pf2.jpg" width="320"></a><p> / Details see: <a href="http://katalog.we-online.de/en/pbs/WE-DCT">http://katalog.we-online.de/en/pbs/WE-DCT</a><p> / <BR>Updated by  Dan Xu 2014-06-10<br> / 2014 (C) Wurth Elektronik
footprint WE-DCT
pins: 1 4, 2 1, 3 2, 4 3

## WE-DD_1260/1280
designator L?, comment <b> WE-DD SMD Shielded Coupled Inductor / <br> / <br> / <br><b> Characteristics / <br> / <br></b></b> 1:1 transformer / <br> / <br> Double inductor with two identical windings / <br> / <br> 4 different sizes available / <br> / <br> Operating temperature: –40 ºC to +125 ºC / <br> / <br> Recommended solder profile: Reflow / <br> / <br> Custom designs on request / <br> / <br> / <br><b> Applications / <br> / <br></b> For SEPIC and CUK topologies / <br> / <br> Flyback applications / <br> / <br> Switching regulators with second, unregulated output voltages / <br> / <br> / <br> / <br><a href="http://katalog.we-online.de/media/images/eisos/IndDD_pf2.jpg" title="Enlarge picture"> / <img src="http://katalog.we-online.de/media/images/eisos/IndDD_pf2.jpg" width="320"></a><p> / Details see: <a href="http://katalog.we-online.de/en/pbs/WE-DD">http://katalog.we-online.de/en/pbs/WE-DD</a><p> / <BR>Updated by  Dan Xu 2014-06-10<br> / 2014 (C) Wurth Elektronik
footprint WE-DD_1260/1280
pins: 1, 2 4, 3, 4 2

## WE-DD_1260/1280/1210_CROSSED
designator L?, comment <b> WE-DD SMD Shielded Coupled Inductor / <br> / <br> / <br><b> Characteristics / <br> / <br></b></b> 1:1 transformer / <br> / <br> Double inductor with two identical windings / <br> / <br> 4 different sizes available / <br> / <br> Operating temperature: –40 ºC to +125 ºC / <br> / <br> Recommended solder profile: Reflow / <br> / <br> Custom designs on request / <br> / <br> / <br><b> Applications / <br> / <br></b> For SEPIC and CUK topologies / <br> / <br> Flyback applications / <br> / <br> Switching regulators with second, unregulated output voltages / <br> / <br> / <br> / <br><a href="http://katalog.we-online.de/media/images/eisos/IndDD_pf2.jpg" title="Enlarge picture"> / <img src="http://katalog.we-online.de/media/images/eisos/IndDD_pf2.jpg" width="320"></a><p> / Details see: <a href="http://katalog.we-online.de/en/pbs/WE-DD">http://katalog.we-online.de/en/pbs/WE-DD</a><p> / <BR>Updated by  Dan Xu 2014-06-10<br> / 2014 (C) Wurth Elektronik
footprint WE-DD_1210/1260/1280_CROSSED
pins: 1, 2 4, 3 2, 4 3

## WE-DD_7332
designator L?, comment <b> WE-DD SMD Shielded Coupled Inductor / <br> / <br> / <br><b> Characteristics / <br> / <br></b></b> 1:1 transformer / <br> / <br> Double inductor with two identical windings / <br> / <br> 4 different sizes available / <br> / <br> Operating temperature: –40 ºC to +125 ºC / <br> / <br> Recommended solder profile: Reflow / <br> / <br> Custom designs on request / <br> / <br> / <br><b> Applications / <br> / <br></b> For SEPIC and CUK topologies / <br> / <br> Flyback applications / <br> / <br> Switching regulators with second, unregulated output voltages / <br> / <br> / <br> / <br><a href="http://katalog.we-online.de/media/images/eisos/IndDD_pf2.jpg" title="Enlarge picture"> / <img src="http://katalog.we-online.de/media/images/eisos/IndDD_pf2.jpg" width="320"></a><p> / Details see: <a href="http://katalog.we-online.de/en/pbs/WE-DD">http://katalog.we-online.de/en/pbs/WE-DD</a><p> / <BR>Updated by  Dan Xu 2014-06-10<br> / 2014 (C) Wurth Elektronik
footprint WE-DD_7332
pins: 1, 2, 3, 4

## WE-DD_7335
designator L?, comment <b> WE-DD SMD Shielded Coupled Inductor / <br> / <br> / <br><b> Characteristics / <br> / <br></b></b> 1:1 transformer / <br> / <br> Double inductor with two identical windings / <br> / <br> 4 different sizes available / <br> / <br> Operating temperature: –40 ºC to +125 ºC / <br> / <br> Recommended solder profile: Reflow / <br> / <br> Custom designs on request / <br> / <br> / <br><b> Applications / <br> / <br></b> For SEPIC and CUK topologies / <br> / <br> Flyback applications / <br> / <br> Switching regulators with second, unregulated output voltages / <br> / <br> / <br> / <br><a href="http://katalog.we-online.de/media/images/eisos/IndDD_pf2.jpg" title="Enlarge picture"> / <img src="http://katalog.we-online.de/media/images/eisos/IndDD_pf2.jpg" width="320"></a><p> / Details see: <a href="http://katalog.we-online.de/en/pbs/WE-DD">http://katalog.we-online.de/en/pbs/WE-DD</a><p> / <BR>Updated by  Dan Xu 2014-06-10<br> / 2014 (C) Wurth Elektronik
footprint WE-DD_7335
pins: 1, 2, 3, 4

## WE-DD_7345
designator L?, comment <b> WE-DD SMD Shielded Coupled Inductor / <br> / <br> / <br><b> Characteristics / <br> / <br></b></b> 1:1 transformer / <br> / <br> Double inductor with two identical windings / <br> / <br> 4 different sizes available / <br> / <br> Operating temperature: –40 ºC to +125 ºC / <br> / <br> Recommended solder profile: Reflow / <br> / <br> Custom designs on request / <br> / <br> / <br><b> Applications / <br> / <br></b> For SEPIC and CUK topologies / <br> / <br> Flyback applications / <br> / <br> Switching regulators with second, unregulated output voltages / <br> / <br> / <br> / <br><a href="http://katalog.we-online.de/media/images/eisos/IndDD_pf2.jpg" title="Enlarge picture"> / <img src="http://katalog.we-online.de/media/images/eisos/IndDD_pf2.jpg" width="320"></a><p> / Details see: <a href="http://katalog.we-online.de/en/pbs/WE-DD">http://katalog.we-online.de/en/pbs/WE-DD</a><p> / <BR>Updated by  Dan Xu 2014-06-10<br> / 2014 (C) Wurth Elektronik
footprint WE-DD_7345
pins: 1, 2, 3, 4

## WE-DDF
designator L?, comment <b>SEPIC SMD Power Transformer WE-DDF</b><br><br> / - Extremely flat<br> / - 1:1 transformer<br> / - Double inductor with two identical windings<br><br> / -- SEPIC-switching regulators<br> / -- Switching regulators with second, / unregulated output voltage
footprint WE-DDF_744876...
pins: 1, 2 4, 3, 4 2

## WE-DSL_8PIN_7505101...
designator T?, comment <b>SMD-VDSL Transformer WE-DSL</b><p> / - IEC60950 compatible<br><br> / -- for VDSL applications<br> / -- Matched to various manufacturers VDSL ICs / <BR> / <BR> / Updated on 2014-07-07<br> / 2014 (C) Wurth Elektronik
footprint WE_EP7_SMD_8PIN
pins: 1, 2, 3, 4, 5, 6, 7, 8

## WE-DSL_8PIN_75005153X
designator T?, comment <b>SMD-VDSL Transformer WE-DSL</b><p> / - IEC60950 compatible<br><br> / -- for VDSL applications<br> / -- Matched to various manufacturers VDSL ICs / <BR> / <BR> / Updated on 2014-07-07<br> / 2014 (C) Wurth Elektronik
footprint WE_EP7_SMD_8PIN
pins: 1, 2, 3, 4, 5, 6, 7, 8

## WE-DSL_8PIN_750051719
designator T?, comment <b>SMD-VDSL Transformer WE-DSL</b><p> / - IEC60950 compatible<br><br> / -- for VDSL applications<br> / -- Matched to various manufacturers VDSL ICs / <BR> / <BR> / Updated on 2014-07-07<br> / 2014 (C) Wurth Elektronik
footprint WE_EPX9_SMD_8PIN
pins: 1, 2, 3, 4, 5, 6, 7, 8

## WE-DSL_9PIN_750050702
designator T?, comment <b>SMD-ADSL Transformer WE-DSL</b><p> / - IEC60950 compatible<br><br> / -- for ADSL applications<br> / -- Matched to various manufacturers ADSL ICs / <br> / <br> / Updated on 2014-07-07<br> / 2014 (C) Wurth Elektronik
footprint WE_EP13_SMD_9PIN
pins: 1, 2, 4, 5, 6, 7, 8, 9, 10

## WE-DSL_9PIN_750050772_750051256
designator T?, comment <b>SMD-ADSL Transformer WE-DSL</b><p> / - IEC60950 compatible<br><br> / -- for ADSL applications<br> / -- Matched to various manufacturers ADSL ICs / <br> / <br> / Updated on 2014-07-07<br> / 2014 (C) Wurth Elektronik
footprint WE_EP13_THT_9PIN
pins: 1, 2, 4, 5, 6, 7, 8, 9, 10

## WE-DSL_9PIN_750051062_750051576
designator T?, comment <b>SMD-ADSL Transformer WE-DSL</b><p> / - IEC60950 compatible<br><br> / -- for ADSL applications<br> / -- Matched to various manufacturers ADSL ICs / <br> / <br> / Updated on 2014-07-07<br> / 2014 (C) Wurth Elektronik
footprint WE_EP13_SMD_9PIN
pins: 1, 2, 4, 5, 6, 7, 8, 9, 10

## WE-DSL_9PIN_750051433
designator T?, comment <b>SMD-ADSL Transformer WE-DSL</b><p> / - IEC60950 compatible<br><br> / -- for ADSL applications<br> / -- Matched to various manufacturers ADSL ICs / <br> / <br> / Updated on 2014-07-07<br> / 2014 (C) Wurth Elektronik
footprint WE_EP13_THT_9PIN
pins: 1, 2, 4, 5, 6, 7, 8, 9, 10

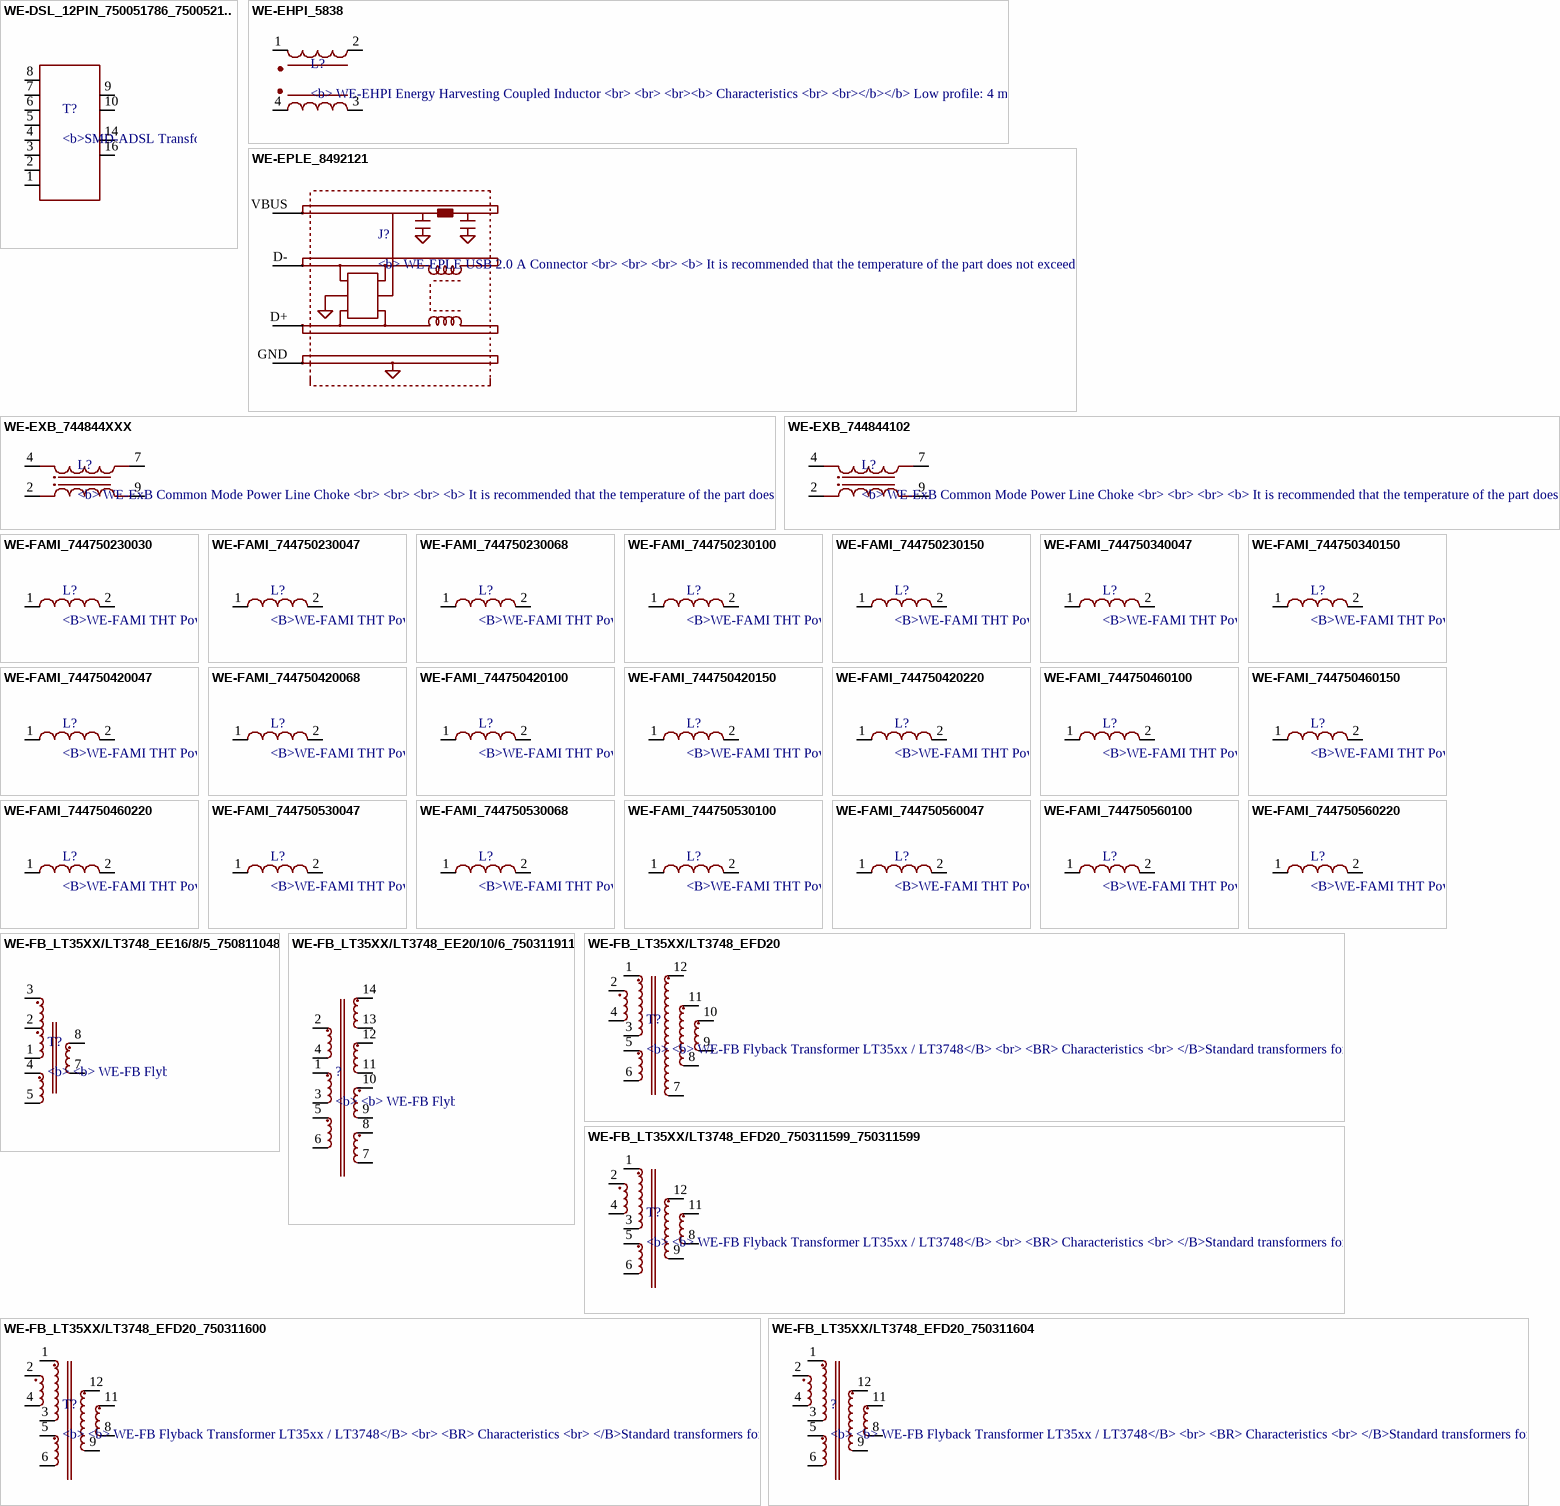
[diagram p5: symbols WE-DSL_12PIN_750051786_7500521.. to WE-FB_LT35XX/LT3748_EFD20_750311604]

## WE-DSL_12PIN_750051786_7500521..
designator T?, comment <b>SMD-ADSL Transformer WE-DSL</b><p> / - IEC60950 compatible<br><br> / -- for ADSL applications<br> / -- Matched to various manufacturers ADSL ICs / <br> / <br> / Updated on 2014-07-07<br> / 2014 (C) Wurth Elektronik
footprint WE_EP13_SMD_12PIN
pins: 1, 2, 3, 4, 5, 6, 7, 8, 9, 10, 14 11, 16 12

## WE-EHPI_5838
designator L?, comment <b> WE-EHPI Energy Harvesting Coupled Inductor / <br> / <br> / <br><b> Characteristics / <br> / <br></b></b> Low profile: 4 mm / <br> Small footprint 6 x 6 mm / <br> Very low secondary RDC / <br> Different turn ratios available / <br> Separated welding/soldering pad for a high reliable component / <br> Optimized, high reliable winding style / <br> / <br> / <br><b> Applications / <br> / <br></b> Wireless fire, alarm, gas and metering remote sensors driven by environmental energies based on energy harvesting voltage transformers like LTC3108/LTC3109 / <br> Sensors with predictive battery replacements in applications which are difficult to access / <br> Energy self-sufficient supply using subsequent installed sensors for energy harvesting / <br> / <br> / <br> / <br><a href="http://katalog.we-online.de/media/images/eisos/IndEHP_pf2.jpg" title="Enlarge picture"> / <img src="http://katalog.we-online.de/media/images/eisos/IndEHP_pf2.jpg" width="320"></a><p> / Details see: <a href="http://katalog.we-online.de/en/pbs/WE-EHPI?">http://katalog.we-online.de/en/pbs/WE-EHPI?</a><p> / Updated on 2014-07-07<br> / 2014 (C) Wurth Elektronik
MANUFACTURER: Würth Elektronik eiSos GmbH; CREATED-BY: Christin Otto; COMPANY-URL: http://we-online.de; CREATED-DATE: March 2013; DATASHEET-URL: http://katalog.we-online.de/de/pbs/WE-EHPI?sid=1d9d32b2a9
footprint WE-EHPI
pins: 1, 2, 3, 4

## WE-EPLE_8492121
designator J?, comment <b> WE-EPLE USB 2.0 A Connector / <br> / <br> / <br> <b> It is recommended that the temperature of the part does / not exceed +125°C under worst case conditions. / <br> / <br></b></b> Storage Temperature: -20°C to +60°C / <br> / <br> Operating Temperature: -40°C to +85°C / <br> / <br> Test conditions of Electrical Properties: 20°C, 33% RH / if not specified differently / <br> / <br>Flamability rating: UL94-V0 / <br> / <br>Quality class: 1500 mating cycles / <br> / <br> / <br> / </b><br><a href="<br><a href="http://katalog.we-online.de/media/images/v2/Family_WE-EPLE_USB2.jpg" title="Enlarge picture"> / <img src="http://katalog.we-online.de/media/images/v2/Family_WE-EPLE_USB2.jpg" width="320"></a><p> / Details see: <a href="http://katalog.we-online.de/en/pbs/WE-EPLE/8492121">http://katalog.we-online.de/en/pbs/WE-EPLE/8492121</a><p> / </b> / </b>2015 (C) Wurth Elektronik
footprint 8492121
pins: D+, D-, GND, VBUS VDD

## WE-EXB_744844XXX
designator L?, comment <b> WE-ExB Common Mode Power Line Choke / <br> / <br> / <br> <b> It is recommended that the temperature of the part does / not exceed +125°C under worst case conditions.. / <br> / <br></b></b> Storage Temperature: -20°C to +60°C / <br> / <br> Operating Temperature: -40°C to +125°C / <br> / <br> Temperature Rise: < 55K / <br> / <br>Test conditions of Electrical Properties: 20°C, 33% RH / <br>if not specified differently / <br> / <br> / <br> / <br> / </b><br><a href="<br><a href="http://katalog.we-online.de/media/images/v2/Family_WE-ExB.jpg" title="Enlarge picture"> / <img src="http://katalog.we-online.de/media/images/v2/Family_WE-ExB.jpg" width="320"></a><p> / Details see: <a href="http://katalog.we-online.de/en/pbs/WE-EXB">http://katalog.we-online.de/en/pbs/WE-EXB</a><p> / </b> / </b>2015 (C) Wurth Elektronik
footprint WE-EXB_744844XXX
pins: 2, 4, 7, 9

## WE-EXB_744844102
designator L?, comment <b> WE-ExB Common Mode Power Line Choke / <br> / <br> / <br> <b> It is recommended that the temperature of the part does / not exceed +125°C under worst case conditions.. / <br> / <br></b></b> Storage Temperature: -20°C to +60°C / <br> / <br> Operating Temperature: -40°C to +125°C / <br> / <br> Temperature Rise: < 55K / <br> / <br>Test conditions of Electrical Properties: 20°C, 33% RH / <br>if not specified differently / <br> / <br> / <br> / <br> / </b><br><a href="<br><a href="http://katalog.we-online.de/media/images/v2/Family_WE-ExB.jpg" title="Enlarge picture"> / <img src="http://katalog.we-online.de/media/images/v2/Family_WE-ExB.jpg" width="320"></a><p> / Details see: <a href="http://katalog.we-online.de/en/pbs/WE-EXB">http://katalog.we-online.de/en/pbs/WE-EXB</a><p> / </b> / </b>2015 (C) Wurth Elektronik
footprint WE-EXB_744844102
pins: 2, 4, 7, 9

## WE-FAMI_744750230030
designator L?, comment <B>WE-FAMI THT Power Inductor</B><BR> / <BR> / <B>Characteristics<br></b><br> / Optimization of material composition causes high performance <br> / Up to 19.7 A Saturation Current <br> / RDC values starting at 3.8 mΩ<br> / Shielded design <br> / Low stray field <br> / <br> / <b>Application</b><br> / <br> / DC/DC converters<br> / Power supplies and battery chargers<br> / Home Entertainment Systems <br> / Portable devices like notebooks<br> / <br> / <br><a href="http://katalog.we-online.de/media/images/eisos/IndFAMI_pf2.jpg" title="Enlarge picture"> / <img src="http://katalog.we-online.de/media/images/eisos/IndFAMI_pf2.jpg" width="320"></a><p> / Details see: <a href="http://katalog.we-online.de/en/pbs/WE-FAMI">http://katalog.we-online.de/en/pbs/WE-FAMI</a><p> / Updated on 2015-05-21<br> / 2015(C) Wurth Elektronik
footprint WE-FAMI_8010_744750230030
pins: 1, 2